# Altium footprint library mylib.PcbLib: 214 footprints (part 14 of 14)
Each footprint in its own frame and in the unit in brackets; x right, y up, seen from the top. Pads: shape width x height; smd on the part's side, far side on the other; paste and mask are expansions set on the pad; w line width, h text height; cw(c..) or ccw(c..) is an arc to the next point about the centre after c.
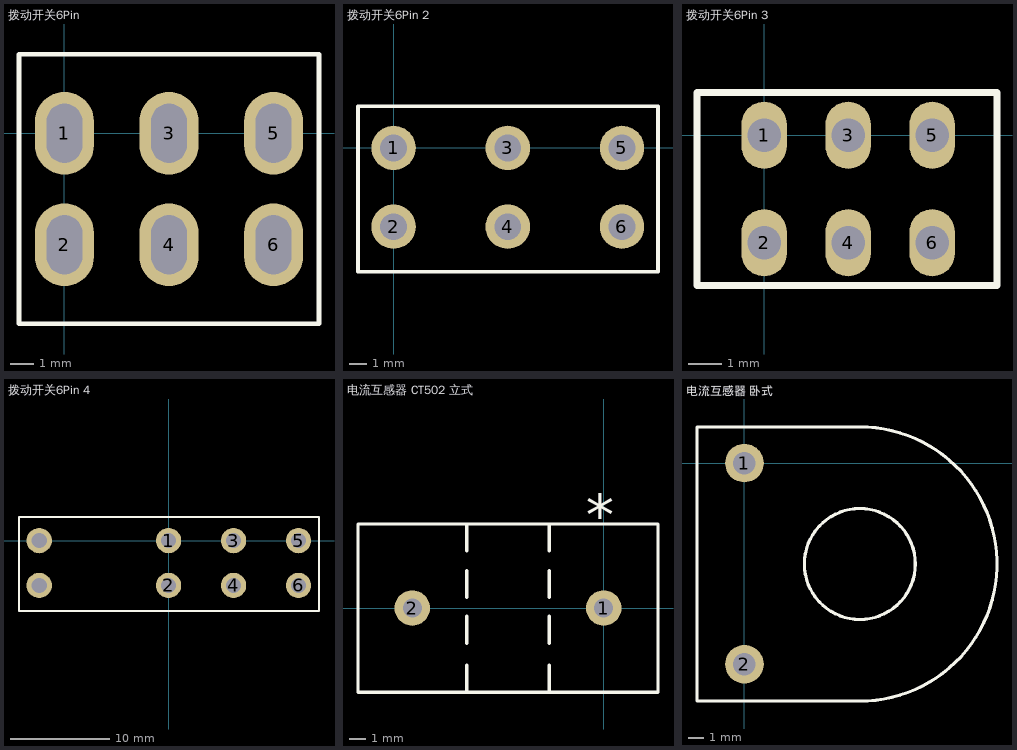
[diagram p13: the footprints below, top view; thin cyan lines are the x and y axes]

## 拨动开关6Pin [mil]
pads (6):
  oval 100x140 hole 60 slot 100 at 90 deg: 1(0,0) 2(0,-189) 3(177,0) 4(177,-189) 5(354,0) 6(354,-189)
Top Overlay:
  lines w8: -77,-322.5 -77,133.5 431,133.5 431,-322.5 -77,-322.5
3D body: height 382, standoff 0, extent -81,-326.5 435,137.5

## 拨动开关6Pin 2 [mil]
pads (6):
  round 100 hole 60: 1(0,0) 2(0,-177.15) 3(257,0) 4(257,-177.15) 5(514,0) 6(514,-177.15)
Top Overlay:
  lines w8: -80,-278.15 595,-278.15 595,93.5 -80,93.5 -80,-278.15

## 拨动开关6Pin 3 [mil]
pads (6):
  oval 54x80 hole 40: 1(0,0) 2(0,-128) 3(100,0) 4(100,-128) 5(200,0) 6(200,-128)
Top Overlay:
  lines w8: -80,-178.9 -80,50.9 277.17,50.9 277.17,-178.9 -80,-178.9

## 拨动开关6Pin 4 [mil]
pads (8):
  round 100 hole 60: 1(0,0) 2(0,-177.15) 3(257,0) 4(257,-177.15) 5(514,0) 6(514,-177.15) ""(-511.81,-177.15) ""(-511.81,0)
Top Overlay:
  lines w8: -591.81,-278.15 -591.81,93.5 595,93.5 595,-278.15 -591.81,-278.15

## 电流互感器 CT502 立式 [mil]
pads (2):
  round 86 hole 46: 1(0,0) 2(-464.57,0)
Top Overlay:
  lines w8: -332.28,-204 -332.28,-139 ; -332.28,-85 -332.28,-20 ; -332.28,26 -332.28,91 ; -332.28,139 -332.28,204 ; -132.28,-204 -132.28,-139 ; -132.28,-85 -132.28,-20 ; -132.28,26 -132.28,91 ; -132.28,139 -132.28,204 ; -596.28,-204 -596.28,204 131.72,204 131.72,-204 -596.28,-204
  text "*" at 25,318 h100

## 电流互感器 卧式 [mil]
pads (2):
  round 96 hole 56: 1(0,0) 2(0,-500)
Top Overlay:
  circle w8: c287,-251 r137.98
  lines w8: -118,-592 -118,90 287,90 cw(c287,-251) 287,-592 -118,-592